# EAGLE library part HDMI (library hdmispi)
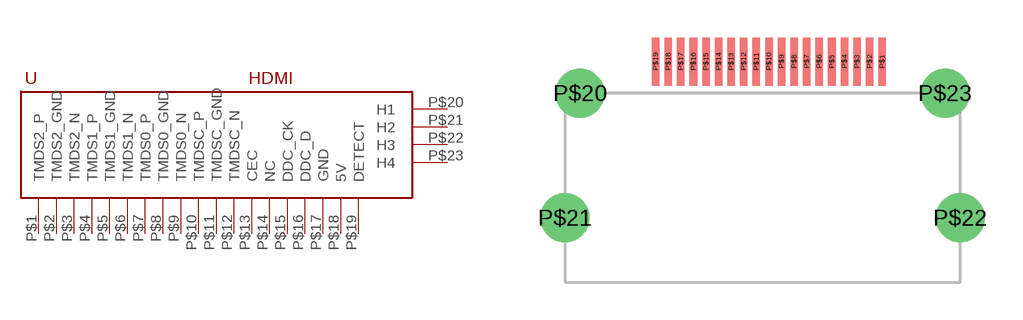
[diagram p0: symbol with the pads of HDMI; footprint HDMI]

Designator prefix -

## HDMI  [HDMI]
P$1  TMDS2_P
P$2  TMDS2_GND
P$3  TMDS2_N
P$4  TMDS1_P
P$5  TMDS1_GND
P$6  TMDS1_N
P$7  TMDS0_P
P$8  TMDS0_GND
P$9  TMDS0_N
P$10  TMDSC_P
P$11  TMDSC_GND
P$12  TMDSC_N
P$13  CEC
P$14  NC
P$15  DDC_CK
P$16  DDC_D
P$17  GND
P$18  5V
P$19  DETECT
P$20  H1
P$21  H2
P$22  H3
P$23  H4

## Footprint HDMI (pad centres in mm)
smd 0.3 x 1.9: P$1 4.75,1.254; P$2 4.25,1.254; P$3 3.75,1.254; P$4 3.25,1.254; P$5 2.75,1.254; P$6 2.25,1.254; P$7 1.75,1.254; P$8 1.25,1.254; P$9 0.75,1.254; P$10 0.25,1.254; P$11 -0.25,1.254; P$12 -0.75,1.254; P$13 -1.25,1.254; P$14 -1.75,1.254; P$15 -2.25,1.254; P$16 -2.75,1.254; P$17 -3.25,1.254; P$18 -3.75,1.254; P$19 -4.25,1.254
drill 1.3: P$20 -7.25,0; P$21 -7.85,-4.95; P$22 7.85,-4.95; P$23 7.25,0